# Altium footprint library PCB - LEADED - SOIC - AD SOIC-14 S14+4.PCBLIB: 1 footprints
Each footprint in its own frame and in the unit in brackets; x right, y up, seen from the top. Pads: shape width x height; smd on the part's side, far side on the other; paste and mask are expansions set on the pad; w line width, h text height; cw(c..) or ccw(c..) is an arc to the next point about the centre after c.
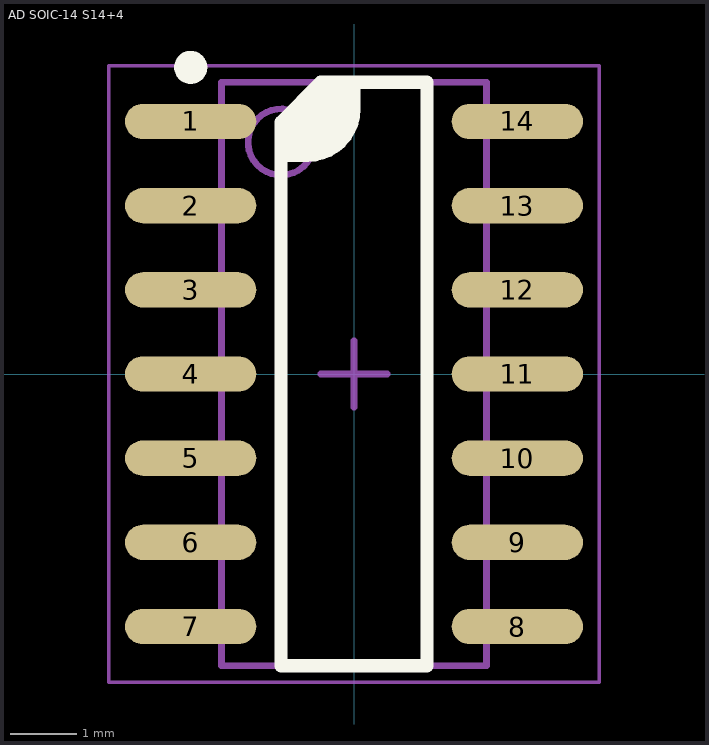
[diagram p0: the footprint, top view; thin cyan lines are the x and y axes]

## AD SOIC-14 S14+4 [mil] "SOIC, 14-Leads, Body 8.65x3.90mm, Pitch 1.27mm, IPC Medium Density"
height 68.9
pads (14):
  oval 77.99x20.98 smd: 1(-97.01,150) 2(-97.01,100) 3(-97.01,50) 4(-97.01,0) 5(-97.01,-50) 6(-97.01,-100) 7(-97.01,-150) 8(97.01,-150) 9(97.01,-100) 10(97.01,-50) 11(97.01,0) 12(97.01,50) 13(97.01,100) 14(97.01,150)
Top Overlay:
  circle w9.84: c-97.01,182.15 r4.92
  region: -19.68,173.23 0,173.23 0,149.61 -19.68,129.92 -43.31,129.92 -43.31,149.61
  lines w7.87: -43.31,129.92 -27.56,129.92 ccw(c-27.56,157.48) 0,157.48 0,173.23 ; -43.31,-173.23 43.31,-173.23 43.31,173.23 -19.68,173.23 -43.31,149.61 -43.31,-173.23
Top Assembly:
  circle w3.94: c-43.31,137.8 r19.68
  lines w3.94: -78.74,-173.23 78.74,-173.23 78.74,173.23 -78.74,173.23 -78.74,-173.23
Top Courtyard:
  lines w1.97: -145.67,-183.07 145.67,-183.07 145.67,183.07 -145.67,183.07 -145.67,-183.07
Top Component Center:
  lines w3.94: -19.69,0 19.68,0 ; 0,-19.68 0,19.68
3D body "AD SOIC-14 S14+4.step": height 68.9, standoff 0, extent -118.11,-173.23 118.11,173.23